# Altium schematic symbol library BD91364BMUU.SchLib: 1 symbol
Pins are listed as number, name and electrical type; pins without a type are passive.

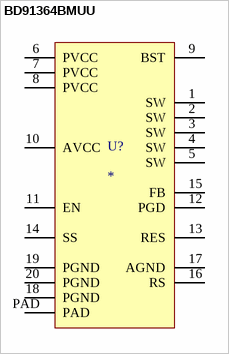
[diagram p0: symbol BD91364BMUU]

## BD91364BMUU
designator U?
pins: 1 SW, 2 SW, 3 SW, 4 SW, 5 SW, 6 PVCC, 7 PVCC, 8 PVCC, 9 BST, 10 AVCC, 11 EN, 12 PGD, 13 RES, 14 SS, 15 FB, 16 RS, 17 AGND, 18 PGND, 19 PGND, 20 PGND, PAD